# Altium footprint library QFN60P250X250X100-10L.PcbLib: 1 footprints
Each footprint in its own frame and in the unit in brackets; x right, y up, seen from the top. Pads: shape width x height; smd on the part's side, far side on the other; paste and mask are expansions set on the pad; w line width, h text height; cw(c..) or ccw(c..) is an arc to the next point about the centre after c.
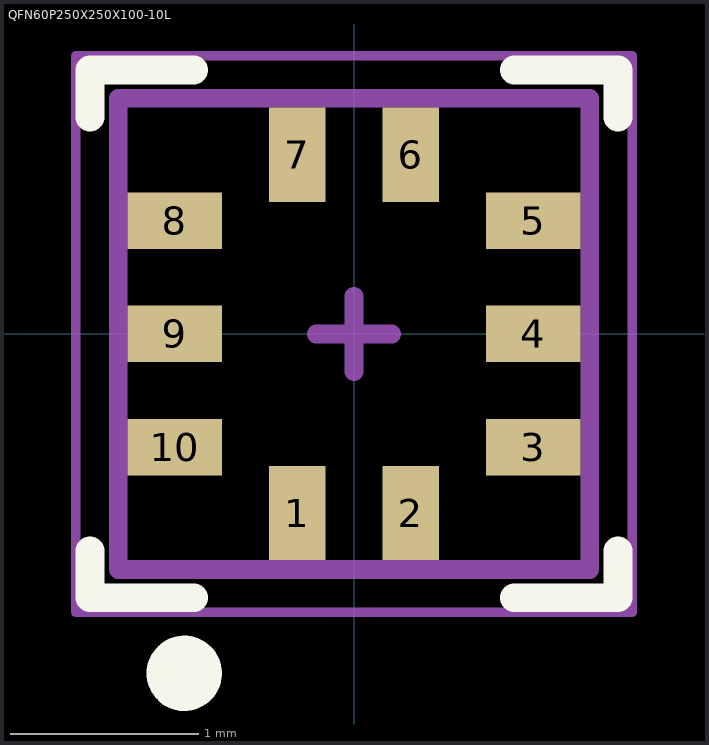
[diagram p0: the footprint, top view; thin cyan lines are the x and y axes]

## QFN60P250X250X100-10L [mm] "QFN, 10-Leads, Body 2.50x2.50mm, Pitch 0.60mm, IPC High Density"
height 1
pads (10):
  rect 0.3x0.5 smd: 1(-0.3,-0.95) 2(0.3,-0.95) 6(0.3,0.95) 7(-0.3,0.95)
  rect 0.5x0.3 smd: 3(0.95,-0.6) 4(0.95,0) 5(0.95,0.6) 8(-0.95,0.6) 9(-0.95,0) 10(-0.95,-0.6)
Top Overlay:
  circle w0.2: c-0.9,-1.8 r0.1
  lines w0.152: -1.4,-1.15 -1.4,-1.4 -0.85,-1.4 ; -1.4,1.15 -1.4,1.4 -0.85,1.4 ; 0.85,-1.4 1.4,-1.4 1.4,-1.15 ; 0.85,1.4 1.4,1.4 1.4,1.15
Mechanical 13:
  lines w0.1: -1.25,-1.25 1.25,-1.25 1.25,1.25 -1.25,1.25 -1.25,-1.25
Mechanical 15:
  lines w0.05: -1.475,-1.475 1.475,-1.475 1.475,1.475 -1.475,1.475 -1.475,-1.475
  lines w0.1: -0.2,0 0.2,0 ; 0,-0.2 0,0.2
3D body: height 0.85, standoff -0.05, extent -1.25,-1.25 1.25,1.25